# Altium footprint library 649012227222.PcbLib: 1 footprints
Each footprint in its own frame and in the unit in brackets; x right, y up, seen from the top. Pads: shape width x height; smd on the part's side, far side on the other; paste and mask are expansions set on the pad; w line width, h text height; cw(c..) or ccw(c..) is an arc to the next point about the centre after c.
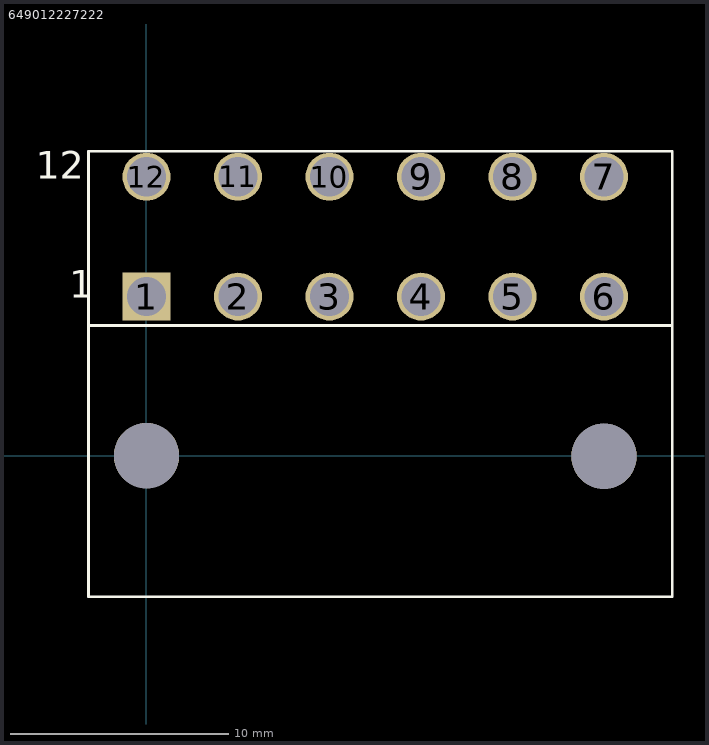
[diagram p0: the footprint, top view; thin cyan lines are the x and y axes]

## 649012227222 [mm] "Dual row Right angle header With plastic peg 12p"
height 8.76
pads (14):
  rect 2.2x2.2 hole 1.8: 1(0,7.3)
  round 2.2 hole 1.8: 2(4.2,7.3) 3(8.4,7.3) 4(12.6,7.3) 5(16.8,7.3) 6(21,7.3) 7(21,12.8) 8(16.8,12.8) 9(12.6,12.8) 10(8.4,12.8) 11(4.2,12.8) 12(0,12.8)
  round 3 hole 3 unplated: ""(0,0) ""(21,-0.03)
Top Overlay:
  lines w0.127: -2.667,-4.6 -2.667,13.97 24.13,13.97 24.13,4.198 ; -2.667,-6.477 -2.667,5.969 24.13,5.969 24.13,-6.477 -2.667,-6.477
  text "12" at -5.08,12.7 h1.27
  text "1" at -3.556,7.239 h1.27
3D body "649012227222.stp": height 11.2, standoff -3.7, extent -2.68,-6.477 24.016,13.493